# EAGLE library part RAK811 (library FaBo-LoRa)
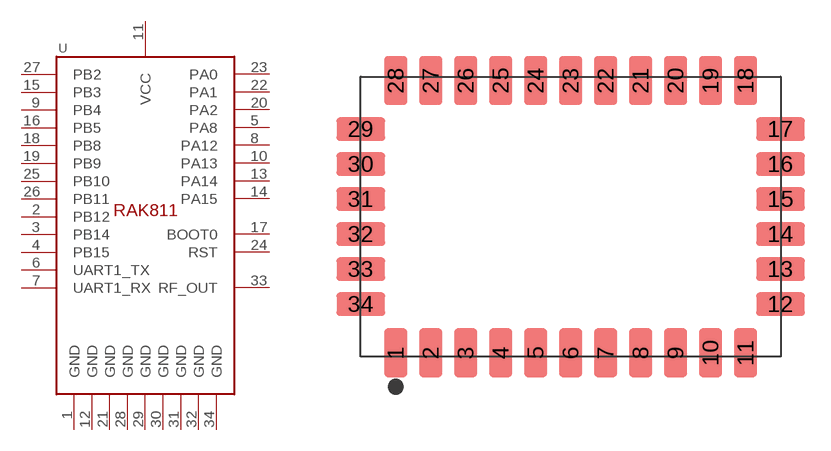
[diagram p1: symbol with the pads of RAK811; footprint RAK811]

Designator prefix U

## RAK811  [RAK811]
1  GND
2  PB12
3  PB14
4  PB15
5  PA8
6  UART1_TX
7  UART1_RX
8  PA12
9  PB4
10  PA13
11  VCC
12  GND
13  PA14
14  PA15
15  PB3
16  PB5
17  BOOT0
18  PB8
19  PB9
20  PA2
21  GND
22  PA1
23  PA0
24  RST
25  PB10
26  PB11
27  PB2
28  GND
29  GND
30  GND
31  GND
32  GND
33  RF_OUT
34  GND

## Footprint RAK811 (pad centres in mm)
smd 1.2 x 2.5: 1 -9,-7; 2 -7.2,-7; 3 -5.4,-7; 4 -3.6,-7; 5 -1.8,-7; 6 0,-7; 7 1.8,-7; 8 3.6,-7; 9 5.4,-7; 10 7.2,-7; 11 9,-7; 18 9,7; 19 7.2,7; 20 5.4,7; 21 3.6,7; 22 1.8,7; 23 0,7; 24 -1.8,7; 25 -3.6,7; 26 -5.4,7; 27 -7.2,7; 28 -9,7
smd 2.5 x 1.2: 12 10.8,-4.5; 13 10.8,-2.7; 14 10.8,-0.9; 15 10.8,0.9; 16 10.8,2.7; 17 10.8,4.5; 29 -10.8,4.5; 30 -10.8,2.7; 31 -10.8,0.9; 32 -10.8,-0.9; 33 -10.8,-2.7; 34 -10.8,-4.5